# Altium schematic symbol library Switches.SchLib: 17 symbols
Pins are listed as number, name and electrical type; pins without a type are passive.

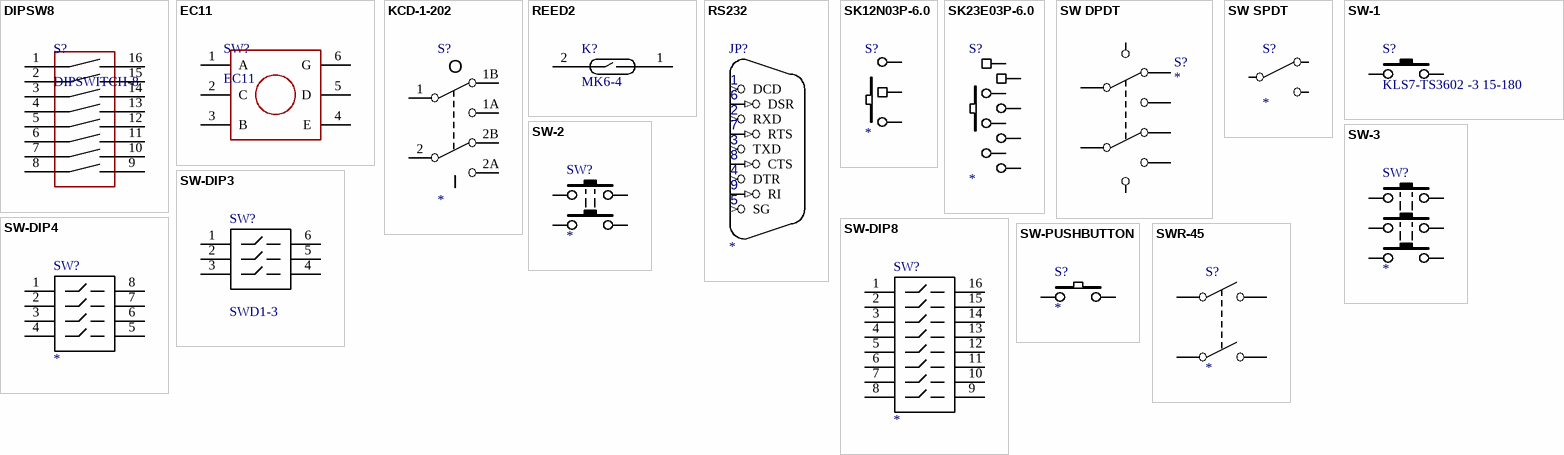
[diagram p0: symbols DIPSW8 to SWR-45]

## DIPSW8
designator S?, comment DIPSWITCH-8
Вид: Перемикач
pins: 1 A1, 2 A2, 3 A3, 4 A4, 5 A5, 6 A6, 7 A7, 8 A9, 9 Y8, 10 Y7, 11 Y6, 12 Y5, 13 Y4, 14 Y3, 15 Y2, 16 Y1

## EC11
designator SW?
footprint EC11 (ALPS rotary encoder)
pins: 1 A, 2 C, 3 B, 4 E, 5 D, 6 G

## KCD-1-202
designator S?
Вид: Перемикач; Виробник: *; *: *
pins: 1 COMMON1, 1A NO1, 1B NC1, 2 COMMON2, 2A NO2, 2B NC2
text: O; I

## REED2
designator K?, comment MK6-4
Вид: Геркон
footprint REEDMK6_4_5 (Resistor, Radial (Molded); 12.70 mm C X 0.30 mm W 14.30 mm L X 3.30 mm T X 3.30 mm H body)
pins: 1, 2

## RS232
designator JP?
RS232; Вид: Роз'єм; Виробник: *; *: *
footprint DRB9F
pins: 1 DCD (in), 2 RXD (in), 3 TXD (in), 4 DTR (in), 5 SG (in), 6 DSR (in), 7 RTS (in), 8 CTS (in), 9 RI (in)

## SK12N03P-6.0
designator S?
Вид: Перемикач; Виробник: *; *: *
footprint SK12N03P
pins: 1, 2 GLOBAL, 3

## SK23E03P-6.0
designator S?
Вид: Перемикач; Виробник: *; *: *
footprint SK23E03P
pins: 1, 2, 3, 4 GLOBAL, 5, 6, 7, 8 GLOBAL

## SW DPDT
designator S?
Вид: Перемикач; Виробник: *; *: *
footprint PS22S11T73
pins: 1 NO1, 2 COMMON1, 3 NC1, 4 NO2, 5 COMMON2, 6 NC2, 7 GND, 8 GND

## SW SPDT
designator S?
Вид: Перемикач; Виробник: *; *: *
footprint IDC1-3P
pins: 1 NC, 2 COMMON, 3 NO

## SW-1
designator S?, comment KLS7-TS3602 -3 15-180
Вид: Кнопка; Робоча напруга: *
footprint KLS7-TS3602 (miniature switch)
pins: 1, 2

## SW-2
designator SW?
Вид: Кнопка; Виробник: *; *: *
pins: 1, 2, 3, 4

## SW-3
designator SW?
Вид: Кнопка; Виробник: *; *: *
pins: 1, 2, 3, 4, 5, 6

## SW-DIP3
designator SW?, comment SWD1-3
Вид: Перемикач; Виробник: *; *: *
pins: 1, 2, 3, 4, 5, 6

## SW-DIP4
designator SW?
Вид: Перемикач; Виробник: *; *: *
footprint DIP-8
pins: 1, 2, 3, 4, 5, 6, 7, 8

## SW-DIP8
designator SW?
Вид: Перемикач; Виробник: *; *: *
footprint DIP-16
pins: 1, 2, 3, 4, 5, 6, 7, 8, 9, 10, 11, 12, 13, 14, 15, 16

## SW-PUSHBUTTON
designator S?
Вид: Кнопка; Виробник: *; *: *
footprint SW4-2_3D
pins: 1, 2

## SWR-45
designator S?
Вид: Перемикач; Виробник: *; *: *
footprint SWR-45
pins: 1 COMMON1, 2 NC1, 3 NC2, 4 COMMON2